# Altium footprint library PCB.PcbLib: 44 footprints (part 1 of 3)
Each footprint in its own frame and in the unit in brackets; x right, y up, seen from the top. Pads: shape width x height; smd on the part's side, far side on the other; paste and mask are expansions set on the pad; w line width, h text height; cw(c..) or ccw(c..) is an arc to the next point about the centre after c.
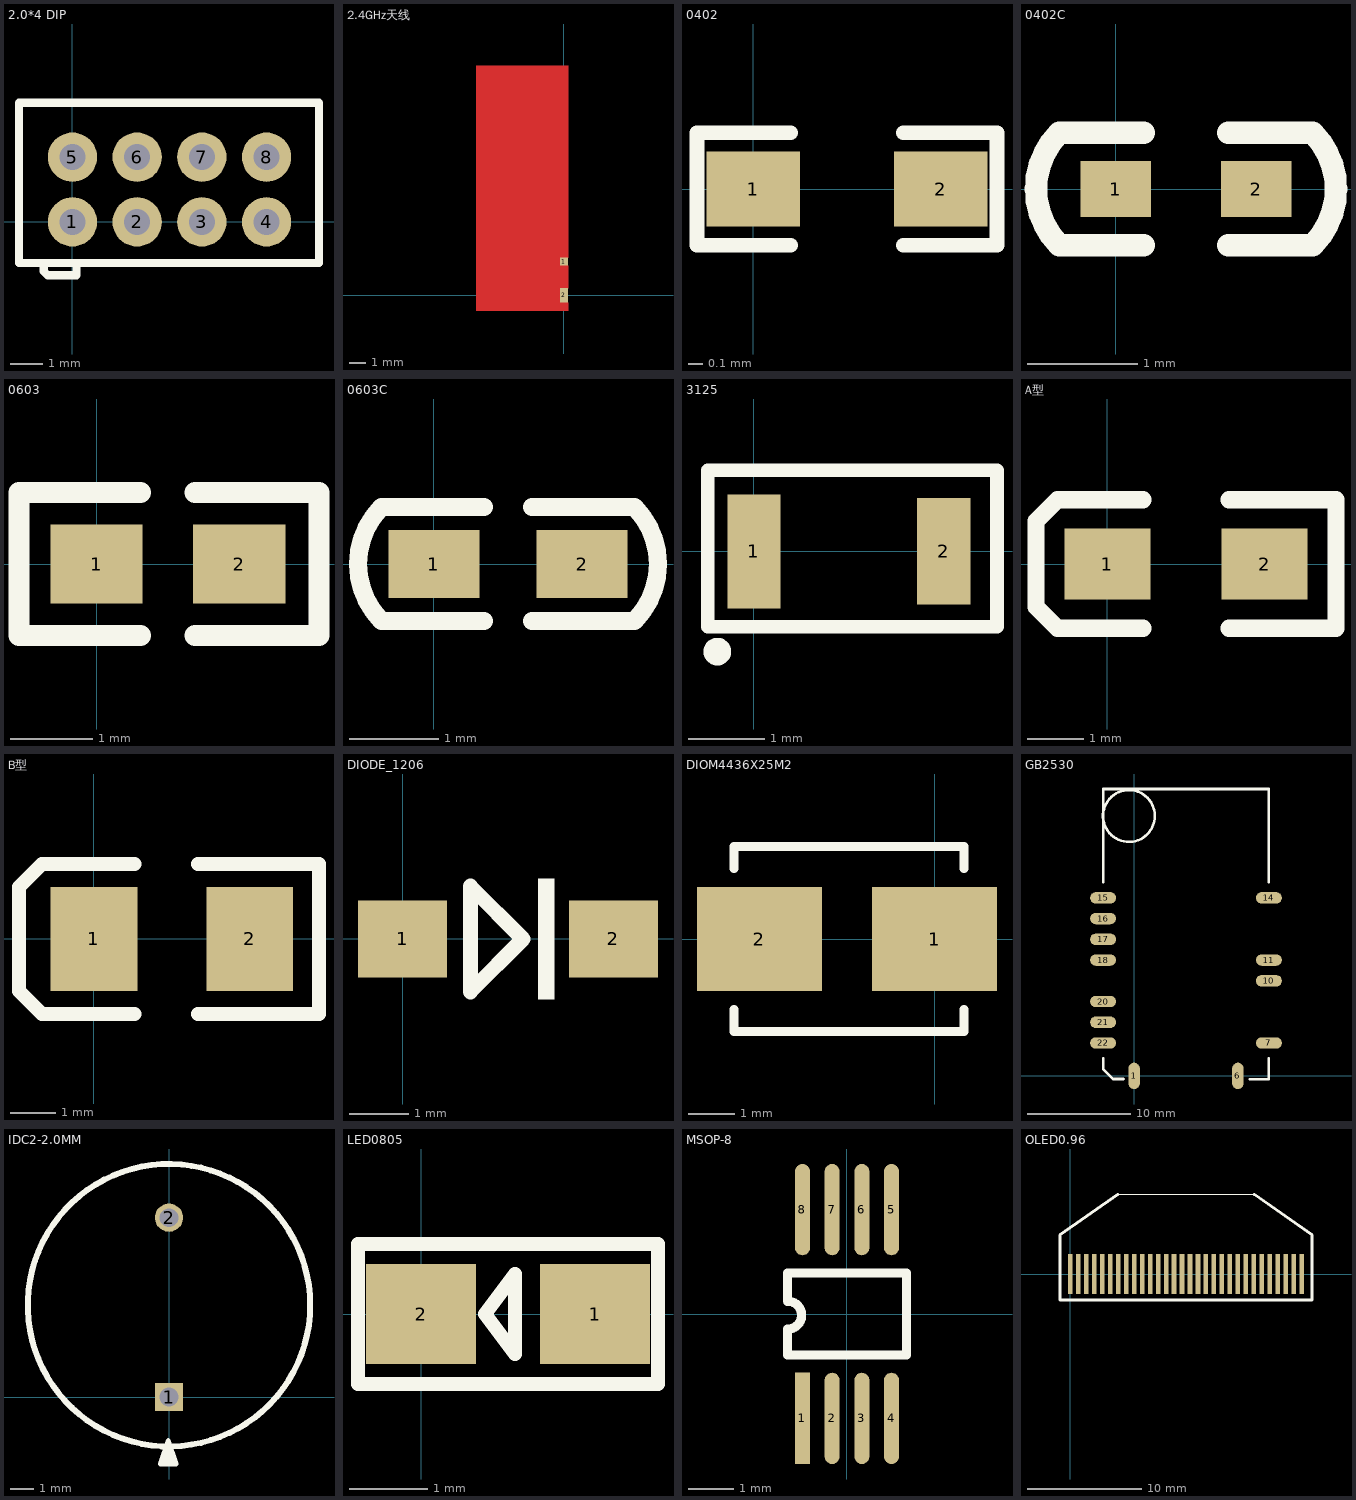
[diagram p0: the footprints below, top view; thin cyan lines are the x and y axes]

## 2.0*4 DIP [mm]
height 7.3
pads (8):
  round 1.524 hole 0.8: 1(0,0) 2(2,0) 3(4,0) 4(6,0) 5(0,2) 6(2,2) 7(4,2) 8(6,2)
Top Overlay:
  lines w0.254: -0.889,-1.27 -0.889,-1.524 -0.762,-1.651 ; -0.127,-1.651 -0.762,-1.651 ; 0.127,-1.27 0.127,-1.651 -0.762,-1.651 ; -1.651,-1.27 -1.651,-0.381 -1.651,3.683 7.62,3.683 7.62,-1.27 -1.651,-1.27

## 2.4GHz天线 [mm]
pads (2):
  rect 0.5x0.5 smd: 1(0,2.1)
  rect 0.5x0.9 smd: 2(0,0)
Top Layer:
  region: -5.15,9.25 -5.15,6.55 -4.65,6.55 -4.65,9.25
  region: -4.65,-0.45 -4.65,4.55 -5.15,4.55 -5.15,-0.45
  region: -5.15,13.949 -5.15,11.25 -4.65,11.25 -4.65,13.949
  region: -2.51,11.75 -2.51,8.75 -2.01,8.75 -2.01,11.75
  region: -2.01,4.05 -2.01,7.05 -2.51,7.05 -2.51,4.05
  region: -0.71,13.449 -0.71,13.949 -5.15,13.949 -5.15,13.449
  region: -2.01,11.25 -2.01,11.75 -5.15,11.75 -5.15,11.25
  region: -2.01,8.75 -2.01,9.25 -5.15,9.25 -5.15,8.75
  region: -2.01,6.55 -2.01,7.05 -5.15,7.05 -5.15,6.55
  region: -2.01,4.05 -2.01,4.55 -5.15,4.55 -5.15,4.05
  region: 0.25,1.85 0.25,2.35 -5.15,2.35 -5.15,1.85
  region: 0.25,-0.45 0.25,0.45 -5.15,0.45 -5.15,-0.45
  pour cut-out: -0.25,-0.95 -5.45,-0.95 -5.45,14.25 -0.25,14.25 -0.25,13.95 -5.149,13.95 -5.15,13.949 -5.15,11.25 -2.525,11.25 -2.51,9.25 -5.15,9.25 -5.15,6.55 -2.51,6.55 -2.51,4.55 -5.15,4.55 -5.15,-0.45 -0.25,-0.45
  pour cut-out: -0.25,13.95 -0.709,13.95 -0.71,13.949 -0.71,13.449 -4.649,13.449 -4.65,13.45 -4.65,11.75 -2.01,11.75 -2.01,8.75 -4.65,8.75 -4.65,7.05 -2.01,7.05 -2.01,4.05 -4.65,4.05 -4.65,2.35 0.25,2.35 0.25,14.25 -0.25,14.25
  pour cut-out: 0.25,1.85 0.25,0.45 -4.65,0.45 -4.65,1.85
  pour cut-out: 0.25,-0.45 0.25,-0.95 -0.25,-0.95 -0.25,-0.45

## 0402 [mil]
pads (2):
  rect 25x20 smd: 1(0,0) 2(50,0)
Top Overlay:
  lines w3.94: 10,-15 -15,-15 -15,15 10,15 ; 40,-15 65,-15 65,15 40,15

## 0402C [mil]
pads (2):
  rect 25x20 smd: 1(0,0) 2(50,0)
Top Overlay:
  lines w8: 10,-20 -20,-20 cw(c0,0) -20,20 10,20 ; 40,-20 70,-20 ccw(c50,0) 70,20 40,20

## 0603 [mil]
pads (2):
  rect 43.94x37.87 smd: 1(0,0) 2(68,0)
Top Overlay:
  lines w10: 21,-34 -37,-34 -37,34 21,34 ; 47,-34 106,-34 106,34 47,34

## 0603C [mil]
pads (2):
  rect 40x30 smd: 1(0,0) 2(65,0)
Top Overlay:
  lines w8: 22,-25 -23,-25 cw(c2,0) -23,25 22,25 ; 43,-25 88,-25 ccw(c63,0) 88,25 43,25

## 3125 [mm]
pads (2):
  rect 0.7x1.5 smd: 1(0,0)
  rect 0.7x1.4 smd: 2(2.5,0)
Top Overlay:
  circle w0.203: c-0.483,-1.321 r0.08
  lines w0.178: -0.61,-0.584 -0.61,0.587 -0.61,1.067 3.2,1.067 3.2,-0.584 ; -0.61,-0.381 -0.61,-0.991 3.2,-0.991 3.2,-0.584 ; 3.2,0.587 3.2,-0.584

## A型 [mil] "贴片钽电容"
height 62.99
pads (2):
  rect 60x50 smd: 1(0,0) 2(110,0)
Top Overlay:
  lines w12: 25,-45 -35,-45 -50,-30 -50,30 -35,45 25,45 ; 85,-45 160,-45 160,45 85,45

## B型 [mil] "贴片钽电容"
height 74.8
pads (2):
  rect 75x90 smd: 1(0,0) 2(135,0)
Top Overlay:
  lines w12: 35,-65 -45,-65 -65,-45 -65,45 -45,65 35,65 ; 90,-65 195,-65 195,65 90,65

## DIODE_1206 [mm]
pads (2):
  rect 1.5x1.3 smd: 1(0,0) 2(3.556,0)
Top Overlay:
  rectangle: 2.286,-1.016 2.559,1.016
  lines w0.254: 1.143,-0.889 1.143,0.889 2.032,0 1.143,-0.889

## DIOM4436X25M2 [mm]
pads (2):
  rect 2.7x2.25 smd: 1(0,0) 2(-3.782,0)
Top Overlay:
  lines w0.2: -4.332,-1.525 -4.332,-2 0.635,-2 0.635,-1.524 ; -4.332,1.525 -4.332,2 0.635,2 0.635,1.525

## GB2530 [mm]
pads (13):
  oval 1.1x2.54 smd: 1(0,0) 6(10,0)
  oval 2.5x1.1 smd: 7(13,3.169) 10(13,9.169) 11(13,11.169) 14(13,17.169) 15(-3,17.169) 16(-3,15.169) 17(-3,13.169) 18(-3,11.169) 20(-3,7.169) 21(-3,5.169) 22(-3,3.169)
Top Overlay:
  circle w0.254: c-0.508,25.069 r2.5
  lines w0.254: -3,1.669 -3,0.669 -2.032,-0.299 -1.032,-0.299 ; -3,18.669 -3,27.669 13,27.669 13,18.669 ; 11.176,-0.331 13,-0.331 13,1.669

## IDC2-2.0MM [mm]
pads (2):
  rect 1.2x1.2 hole 0.8: 1(0,0)
  round 1.2 hole 0.8: 2(0,7.62)
Top Overlay:
  circle w0.254: c0,3.9 r6
  lines w0.2: -0.163,-2.845 -0.03,-1.845 ; 0.037,-2.845 -0.03,-1.845 ; 0.237,-2.845 -0.03,-1.845 ; -0.03,-1.845 -0.363,-2.845 0.303,-2.845 -0.03,-1.845

## LED0805 [mm]
pads (2):
  rect 1.4x1.27 smd: 1(2.21,0) 2(0,0)
Top Overlay:
  lines w0.178: -0.801,-0.889 -0.8,-0.889 ; -0.8,-0.889 -0.8,0.889 3.01,0.889 3.01,0 3.01,-0.889 -0.8,-0.889 ; 0.813,0 1.194,0.508 1.194,-0.508 0.813,0

## MSOP-8 [mm] "e=0.65  E=3.0  H=1.1        E.G.:MCP1650RT-E/MS&MAX1675EUA"
height 1.1
pads (8):
  rect 0.33x2 smd: 1(-0.975,-2.286)
  oval 0.33x2 smd: 2(-0.325,-2.286) 3(0.325,-2.286) 4(0.975,-2.286) 5(0.975,2.286) 6(0.325,2.286) 7(-0.325,2.286) 8(-0.975,2.286)
Top Overlay:
  lines w0.2: -1.3,-0.9 -1.3,-0.331 ccw(c-1.3,-0.025) -1.3,0.28 -1.3,0.9 1.3,0.9 1.3,-0.9 -1.3,-0.9

## OLED0.96 [mm]
pads (30):
  rect 0.4x3.5 smd: 1(0,0) 2(0.7,0) 3(1.4,0) 4(2.1,0) 5(2.8,0) 6(3.5,0) 7(4.2,0) 8(4.9,0) 9(5.6,0) 10(6.3,0) 11(7,0) 12(7.7,0) 13(8.4,0) 14(9.1,0) 15(9.8,0) 16(10.5,0) 17(11.2,0) 18(11.9,0) 19(12.6,0) 20(13.3,0) 21(14,0) 22(14.7,0) 23(15.4,0) 24(16.1,0) 25(16.8,0) 26(17.5,0) 27(18.2,0) 28(18.9,0) 29(19.6,0) 30(20.3,0)
Top Overlay:
  lines w0.1: 4.191,6.985 16.129,6.985
  lines w0.254: 4.191,6.985 -0.889,3.429 -0.889,-2.286 21.209,-2.286 21.209,3.429 16.129,6.985
Bottom Overlay:
  lines w0.1: -3,5.001 -3,8.001 ; -3,8.001 23.3,8.001 23.3,-14.999 -3,-14.999 -3,8.001
3D body: height 0.5, standoff 0, extent -2.54,-14.351 23.3,7.493